# Altium schematic symbol library SI_tmp.SchLib: 2 symbols
Pins are listed as number, name and electrical type; pins without a type are passive.

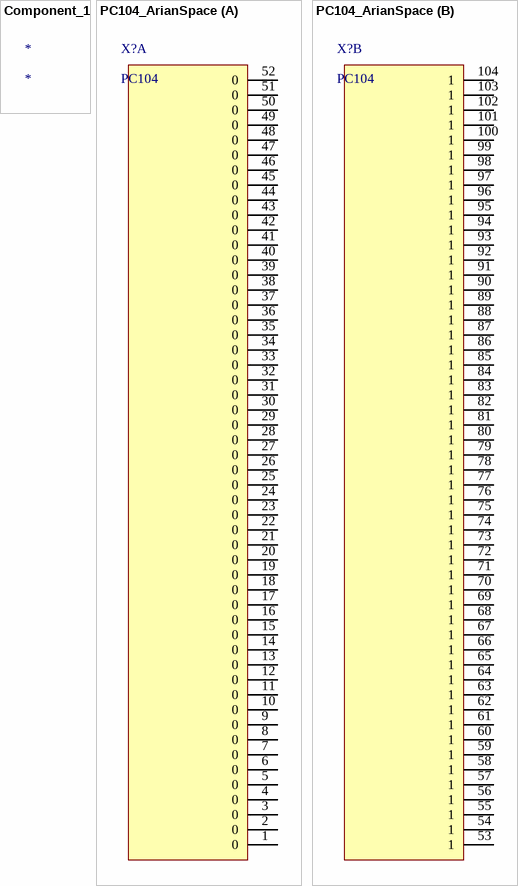
[diagram p0: symbols Component_1 to PC104_ArianSpace]

## Component_1
designator *

## PC104_ArianSpace
designator X?, comment PC104
PC104 connector
footprint PC104_ArianSpace
part A pins: 1 0, 2 0, 3 0, 4 0, 5 0, 6 0, 7 0, 8 0, 9 0, 10 0, 11 0, 12 0, 13 0, 14 0, 15 0, 16 0, 17 0, 18 0, 19 0, 20 0, 21 0, 22 0, 23 0, 24 0, 25 0, 26 0, 27 0, 28 0, 29 0, 30 0, 31 0, 32 0, 33 0, 34 0, 35 0, 36 0, 37 0, 38 0, 39 0, 40 0, 41 0, 42 0, 43 0, 44 0, 45 0, 46 0, 47 0, 48 0, 49 0, 50 0, 51 0, 52 0
part B pins: 53 1, 54 1, 55 1, 56 1, 57 1, 58 1, 59 1, 60 1, 61 1, 62 1, 63 1, 64 1, 65 1, 66 1, 67 1, 68 1, 69 1, 70 1, 71 1, 72 1, 73 1, 74 1, 75 1, 76 1, 77 1, 78 1, 79 1, 80 1, 81 1, 82 1, 83 1, 84 1, 85 1, 86 1, 87 1, 88 1, 89 1, 90 1, 91 1, 92 1, 93 1, 94 1, 95 1, 96 1, 97 1, 98 1, 99 1, 100 1, 101 1, 102 1, 103 1, 104 1